# EAGLE library part DG333 (library wheat)
IC, quad analog mux DG333/MAX333
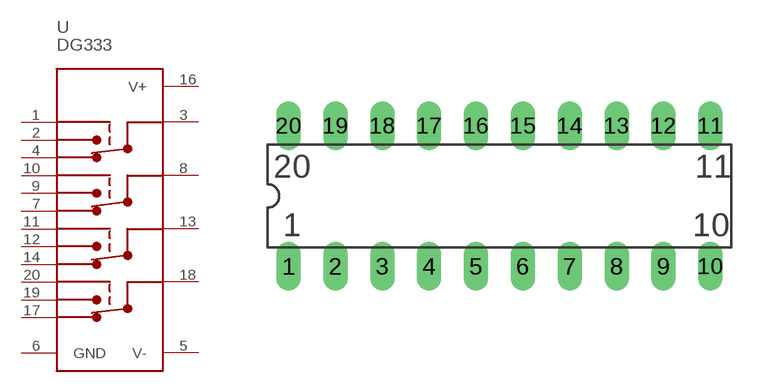
[diagram p116: symbol with the pads of DIP20; footprint DIP20]

Designator prefix U

## DG333  [DIP20]
1  IN1  pas
2  S1  pas
3  D1  pas
4  S2  pas
5  V-  pas
6  GND  pas
7  S4  pas
8  D2  pas
9  S3  pas
10  IN2  pas
11  IN3  pas
12  S5  pas
13  D3  pas
14  S6  pas
16  V+  pas
17  S8  pas
18  D4  pas
19  S7  pas
20  IN4  pas

## Footprint DIP20 (pad centres in mm)
20 PIN DIP .3 C
drill 0.813 long: 1 0,0; 2 2.54,0; 3 5.08,0; 4 7.62,0; 5 10.16,0; 6 12.7,0; 7 15.24,0; 8 17.78,0; 9 20.32,0; 10 22.86,0; 11 22.86,7.62; 12 20.32,7.62; 13 17.78,7.62; 14 15.24,7.62; 15 12.7,7.62; 16 10.16,7.62; 17 7.62,7.62; 18 5.08,7.62; 19 2.54,7.62; 20 0,7.62